# Altium footprint library SAMTEC-SSM-117-X-DV.PcbLib: 1 footprints
Each footprint in its own frame and in the unit in brackets; x right, y up, seen from the top. Pads: shape width x height; smd on the part's side, far side on the other; paste and mask are expansions set on the pad; w line width, h text height; cw(c..) or ccw(c..) is an arc to the next point about the centre after c.
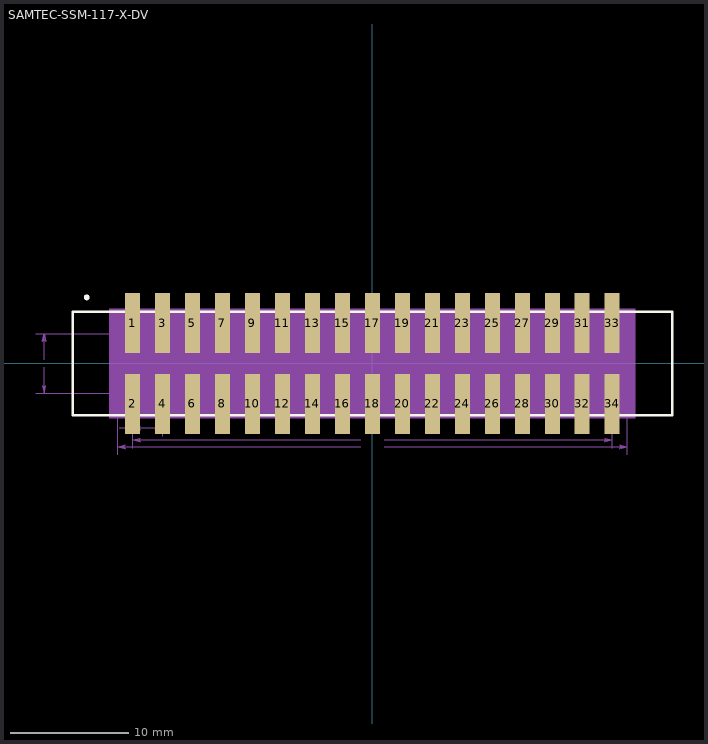
[diagram p0: the footprint, top view; thin cyan lines are the x and y axes]

## SAMTEC-SSM-117-X-DV [mil]
pads (34):
  rect 50x200 smd: 1(-800,135) 2(-800,-135) 3(-700,135) 4(-700,-135) 5(-600,135) 6(-600,-135) 7(-500,135) 8(-500,-135) 9(-400,135) 10(-400,-135) 11(-300,135) 12(-300,-135) 13(-200,135) 14(-200,-135) 15(-100,135) 16(-100,-135) 17(0,135) 18(0,-135) 19(100,135) 20(100,-135) 21(200,135) 22(200,-135) 23(300,135) 24(300,-135) 25(400,135) 26(400,-135) 27(500,135) 28(500,-135) 29(600,135) 30(600,-135) 31(700,135) 32(700,-135) 33(800,135) 34(800,-135)
Top Overlay:
  circle w10: c-952.76,220.47 r4.72
  lines w7.87: -1000,-172.72 1000,-172.72 1000,172.72 -1000,172.72 -1000,-172.72
Mechanical 13:
  drawing of 462 lines, arcs and shapes, not listed
  text "2.540" at -903.5,-220 h10
  text "5.080" at -1120.98,-5 h10
  text "43.180" at -31.5,-282.52 h10
  text "40.640" at -31.5,-260 h10
Mechanical 15:
  region: 876.97,-181.97 -876.97,-181.97 -876.97,181.97 876.97,181.97
3D body "2530-6V0C-XX_STEP.stp": height 399.53, standoff -0.47, extent -994,-220.78 994,219.22